# Altium footprint library CKCP-JS102011SAQN-3_V.PcbLib: 1 footprints
Each footprint in its own frame and in the unit in brackets; x right, y up, seen from the top. Pads: shape width x height; smd on the part's side, far side on the other; paste and mask are expansions set on the pad; w line width, h text height; cw(c..) or ccw(c..) is an arc to the next point about the centre after c.
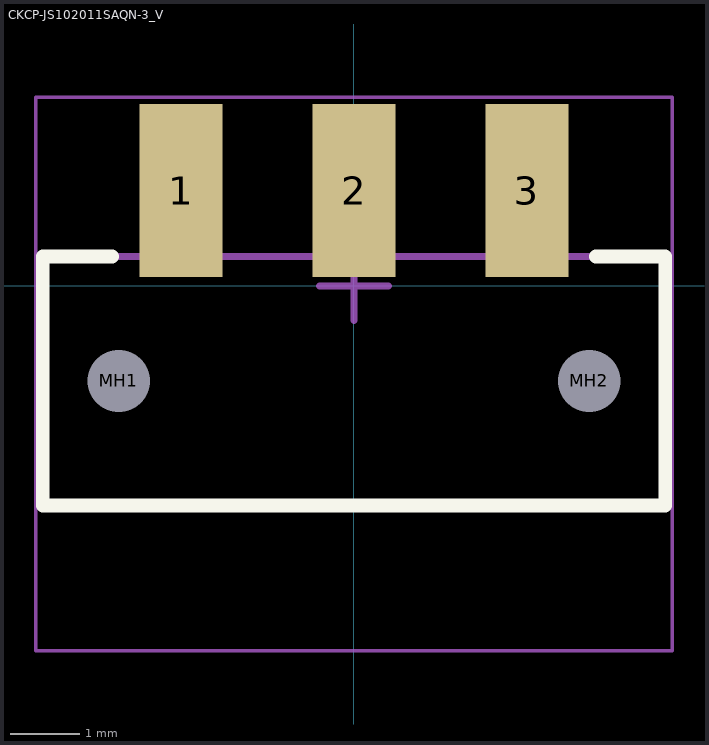
[diagram p0: the footprint, top view; thin cyan lines are the x and y axes]

## CKCP-JS102011SAQN-3_V [mm] "SMD, 3-Leads, Body 9x3.6mm, Pitch 2.5mm"
height 3.5
pads (5):
  rect 1.2x2.5 smd: 1(-2.5,1.375) 2(0,1.375) 3(2.5,1.375)
  round 0.6 hole 0.9 unplated: MH1(-3.4,-1.375) MH2(3.4,-1.375)
Top Overlay:
  lines w0.2: -3.5,0.425 -4.5,0.425 -4.5,-3.175 4.5,-3.175 4.5,0.425 3.5,0.425
Mechanical 13:
  lines w0.1: -4.5,-3.175 4.5,-3.175 4.5,0.425 -4.5,0.425 -4.5,-3.175
Mechanical 15:
  lines w0.05: -4.6,-5.275 -4.6,2.725 4.6,2.725 4.6,-5.275 -4.6,-5.275
  lines w0.1: -0.5,0 0.5,0 ; 0,-0.5 0,0.5
3D body "js102011saqn.stp": height 3.52, standoff -0.78, extent -4.5,-5.175 4.5,2.375